# Altium footprint library futy.PcbLib: 18 footprints (part 2 of 2)
Each footprint in its own frame and in the unit in brackets; x right, y up, seen from the top. Pads: shape width x height; smd on the part's side, far side on the other; paste and mask are expansions set on the pad; w line width, h text height; cw(c..) or ccw(c..) is an arc to the next point about the centre after c.
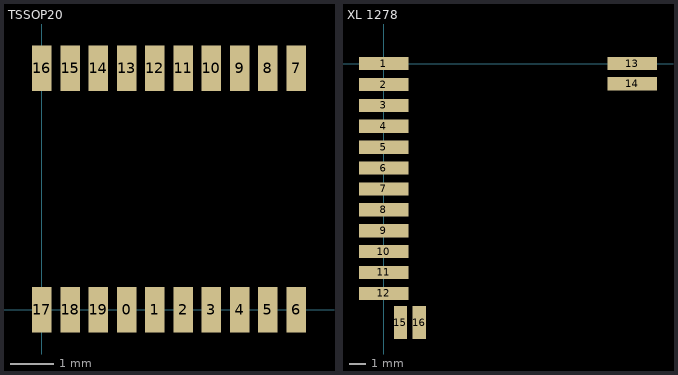
[diagram p1: the footprints below, top view; thin cyan lines are the x and y axes]

## TSSOP20 [mm]
pads (20):
  rect 0.45x1.05 smd: 0(1.95,0) 1(2.6,0) 2(3.25,0) 3(3.9,0) 4(4.55,0) 5(5.2,0) 6(5.85,0) 7(5.85,5.55) 8(5.2,5.55) 9(4.55,5.55) 10(3.9,5.55) 11(3.25,5.55) 12(2.6,5.55) 13(1.95,5.55) 14(1.3,5.55) 15(0.65,5.55) 16(0,5.55) 17(0,0) 18(0.65,0) 19(1.3,0)
3D body "TSSOP-20.STEP": height 1, standoff 0, extent -0.325,-0.43 6.175,5.98

## XL 1278 [mm]
pads (16):
  rect 3x0.8 smd: 1(0,0) 2(0,-1.27) 3(0,-2.54) 4(0,-3.81) 5(0,-5.08) 6(0,-6.35) 7(0,-7.62) 8(0,-8.89) 9(0,-10.16) 10(0,-11.43) 11(0,-12.7) 12(0,-13.97) 13(15.113,0) 14(15.112,-1.221)
  rect 0.8x2 smd: 15(1.016,-15.748) 16(2.159,-15.748)
3D body: height 2, standoff 0.1, extent -0.508,-16.002 15.494,1.289